# EAGLE library part 1X07_CONNECTOR (library my_library)
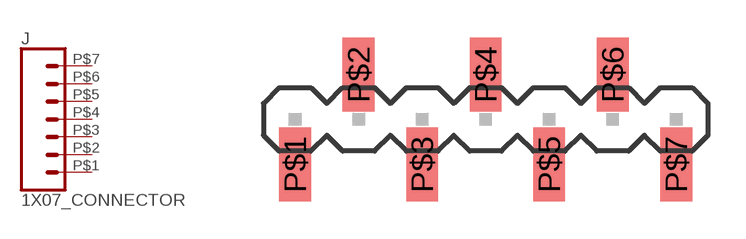
[diagram p12: symbol with the pads of 1X07_SMD_HEADER; footprint 1X07_SMD_HEADER]

Designator prefix J

## 1X07_CONNECTOR  [1X07_SMD_HEADER]
P$1  1  pas
P$2  2  pas
P$3  3  pas
P$4  4  pas
P$5  5  pas
P$6  6  pas
P$7  7  pas

## Footprint 1X07_SMD_HEADER (pad centres in mm)
Plated Through Hole -7 Pin Specifications: Pin count:7 Pin pitch:0.1" Example device(s): CONN_07
smd 1.27 x 2.96: P$1 0,-1.8; P$2 2.54,1.8; P$3 5.08,-1.8; P$4 7.62,1.8; P$5 10.16,-1.8; P$6 12.7,1.8; P$7 15.24,-1.8